# EAGLE library part TE7022L (library toslink)
Hi-Q USB Audio Streaming Controller
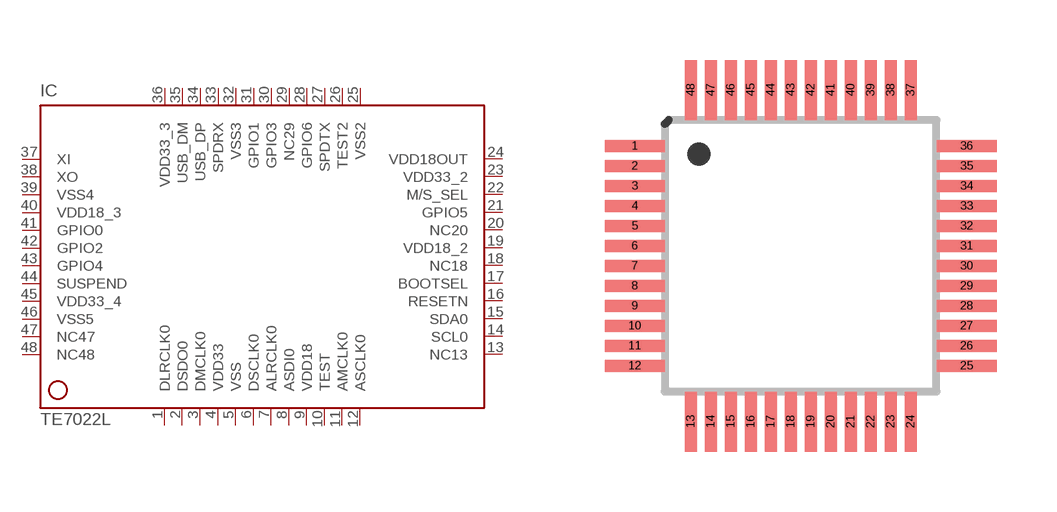
[diagram p6: symbol with the pads of LQFP48; footprint LQFP48]

Designator prefix IC

## TE7022L  [LQFP48]
1  DLRCLK0
2  DSDO0  out
3  DMCLK0  out
4  VDD33  in
5  VSS  pwr
6  DSCLK0
7  ALRCLK0
8  ASDI0  in
9  VDD18  in
10  TEST
11  AMCLK0  out
12  ASCLK0
13  NC13  nc
14  SCL0
15  SDA0
16  RESETN  in
17  BOOTSEL  in
18  NC18  nc
19  VDD18_2  in
20  NC20  nc
21  GPIO5
22  M/S_SEL  in
23  VDD33_2  in
24  VDD18OUT  out
25  VSS2  pwr
26  TEST2
27  SPDTX  out
28  GPIO6
29  NC29  nc
30  GPIO3
31  GPIO1
32  VSS3  pwr
33  SPDRX  in
34  USB_DP
35  USB_DM
36  VDD33_3  in
37  XI  in
38  XO  out
39  VSS4
40  VDD18_3  in
41  GPIO0
42  GPIO2
43  GPIO4
44  SUSPEND  out
45  VDD33_4  in
46  VSS5  pwr
47  NC47  nc
48  NC48  nc

## Footprint LQFP48 (pad centres in mm)
LQFP48 VXH48A Auto generated by make-symbol-device-package-bsdl.ulp Rev. 34 Source: http://www.national.com/ds/DP/DP83848VYB.pdf
smd 1.5 x 0.3: 1 -4.15,2.75; 2 -4.15,2.25; 3 -4.15,1.75; 4 -4.15,1.25; 5 -4.15,0.75; 6 -4.15,0.25; 7 -4.15,-0.25; 8 -4.15,-0.75; 9 -4.15,-1.25; 10 -4.15,-1.75; 11 -4.15,-2.25; 12 -4.15,-2.75; 25 4.15,-2.75; 26 4.15,-2.25; 27 4.15,-1.75; 28 4.15,-1.25; 29 4.15,-0.75; 30 4.15,-0.25; 31 4.15,0.25; 32 4.15,0.75; 33 4.15,1.25; 34 4.15,1.75; 35 4.15,2.25; 36 4.15,2.75
smd 0.3 x 1.5: 13 -2.75,-4.15; 14 -2.25,-4.15; 15 -1.75,-4.15; 16 -1.25,-4.15; 17 -0.75,-4.15; 18 -0.25,-4.15; 19 0.25,-4.15; 20 0.75,-4.15; 21 1.25,-4.15; 22 1.75,-4.15; 23 2.25,-4.15; 24 2.75,-4.15; 37 2.75,4.15; 38 2.25,4.15; 39 1.75,4.15; 40 1.25,4.15; 41 0.75,4.15; 42 0.25,4.15; 43 -0.25,4.15; 44 -0.75,4.15; 45 -1.25,4.15; 46 -1.75,4.15; 47 -2.25,4.15; 48 -2.75,4.15